# EAGLE library part JSW2-63DR+ (library Mini Circuits)
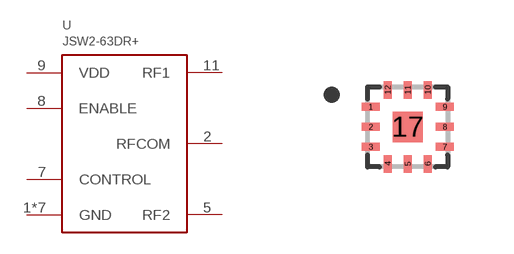
[diagram p0: symbol with the pads of MT1818; footprint MT1818]

Designator prefix U

## JSW2-63DR+  [MT1818]
1  GND
2  RFCOM
3  GND
4  GND
5  RF2
6  GND
7  CONTROL
8  ENABLE
9  VDD
10  GND
11  RF1
12  GND
17  GND

## Footprint MT1818 (pad centres in mm)
smd 0.44 x 0.2: 1 -0.925,0.5; 2 -0.925,0; 3 -0.925,-0.5; 7 0.925,-0.5; 8 0.925,0; 9 0.925,0.5
smd 0.2 x 0.44: 4 -0.5,-0.925; 5 0,-0.925; 6 0.5,-0.925; 10 0.5,0.925; 11 0,0.925; 12 -0.5,0.925
smd 0.76 x 0.76: 17 0,0